# EAGLE library part LEVELSHIFTER4 (library partes)
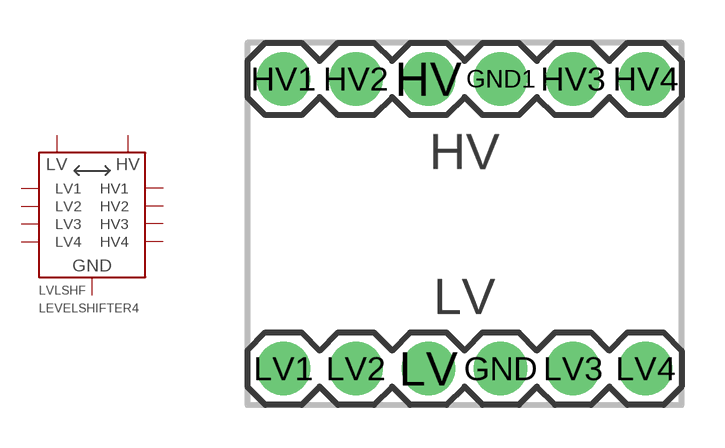
[diagram p1: symbol with the pads of LEVELSHIFTER4; footprint LEVELSHIFTER4]

Designator prefix LVLSHF

## LEVELSHIFTER4  [LEVELSHIFTER4]
GND  GND
GND1  GND
HV  HV  pwr
HV1  HV1
HV2  HV2
HV3  HV3  in
HV4  HV4  in
LV  LV  pwr
LV1  LV1
LV2  LV2
LV3  LV3  out
LV4  LV4  out

## Footprint LEVELSHIFTER4 (pad centres in mm)
drill 1.016 pad 1.88: GND 8.89,1.27; GND1 8.89,11.43; HV 6.35,11.43; HV1 1.27,11.43; HV2 3.81,11.43; HV3 11.43,11.43; HV4 13.97,11.43; LV 6.35,1.27; LV1 1.27,1.27; LV2 3.81,1.27; LV3 11.43,1.27; LV4 13.97,1.27